# Altium footprint library PcbLib2021-2022.PcbLib: 46 footprints (part 1 of 3)
Each footprint in its own frame and in the unit in brackets; x right, y up, seen from the top. Pads: shape width x height; smd on the part's side, far side on the other; paste and mask are expansions set on the pad; w line width, h text height; cw(c..) or ccw(c..) is an arc to the next point about the centre after c.
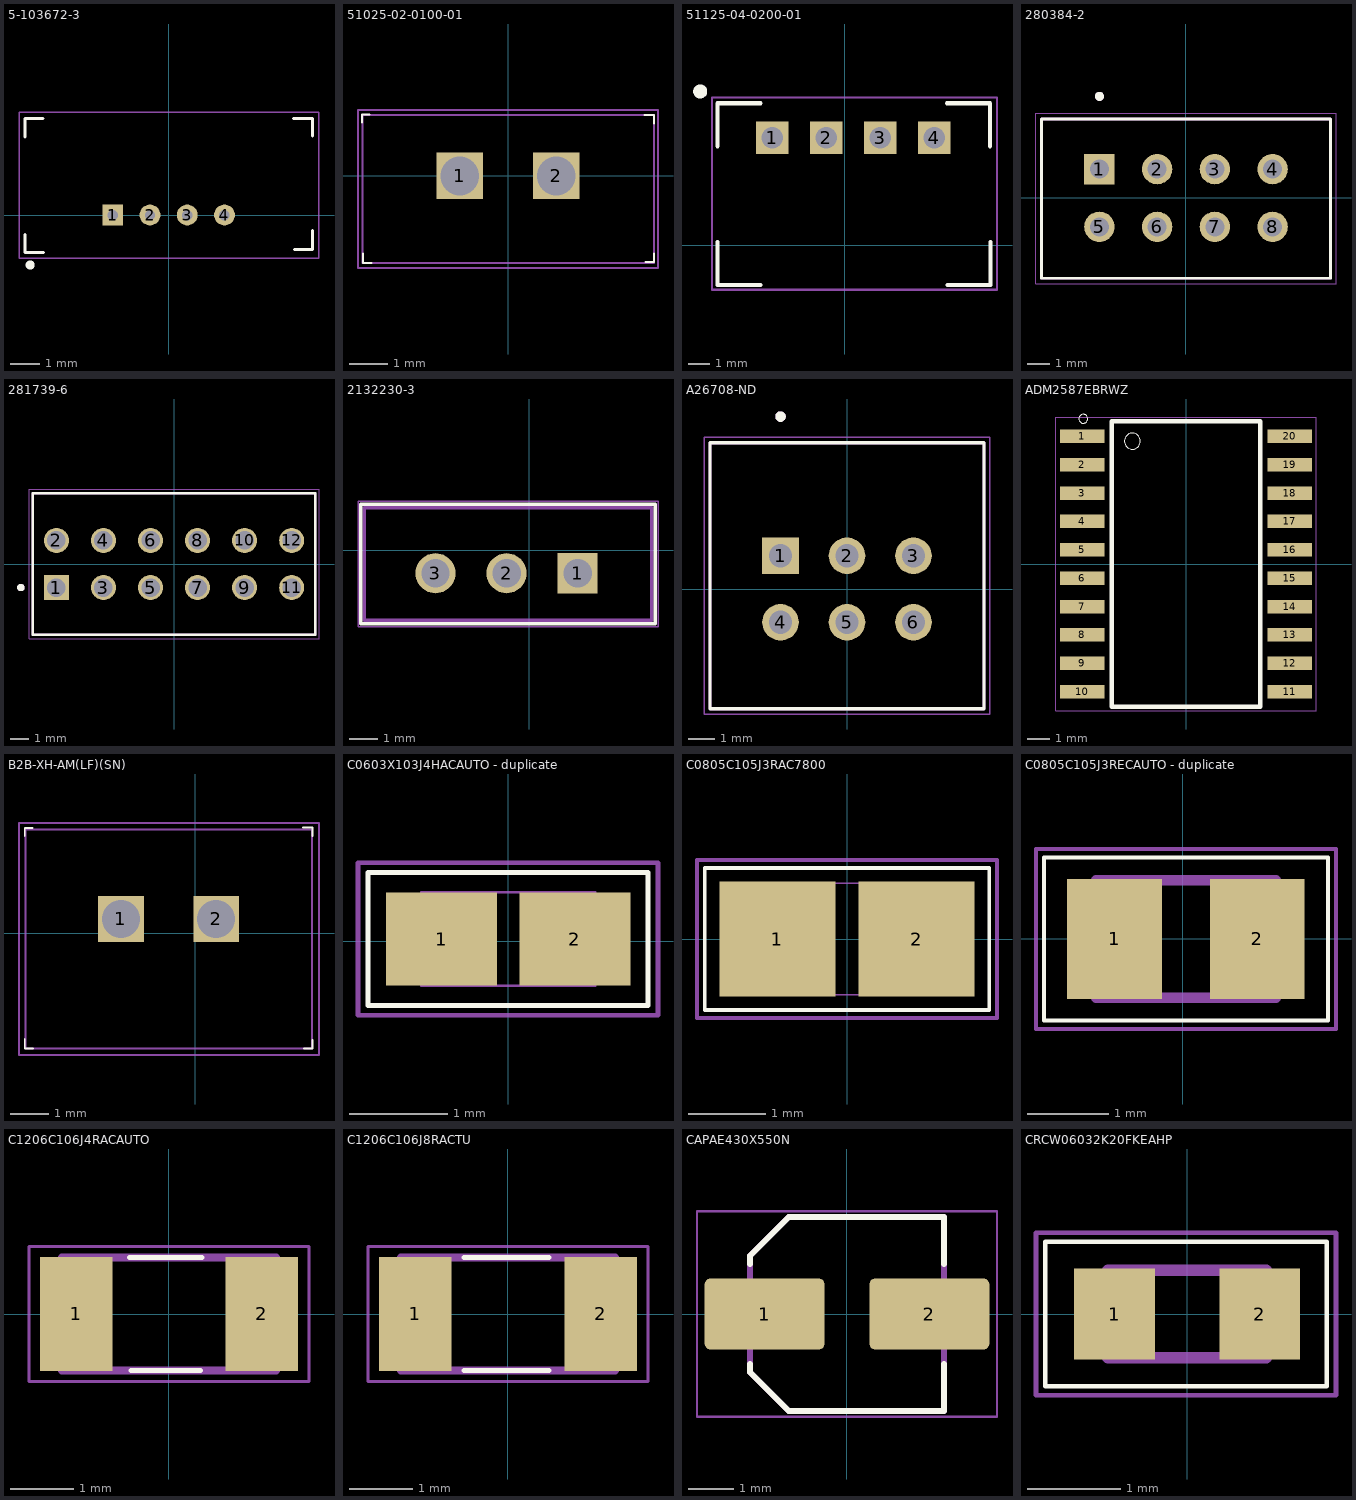
[diagram p0: the footprints below, top view; thin cyan lines are the x and y axes]

## 5-103672-3 [mm]
pads (4):
  rect 0.7x0.7 hole 0.35 square mask+0.01: 1(-1.875,0)
  round 0.7 hole 0.35 square mask+0.01: 2(-0.625,0) 3(0.625,0) 4(1.875,0)
Top Overlay:
  circle w0.254: c-4.65,-1.675 r0.025
  lines w0.1: -4.825,-0.65 -4.825,-1.25 -4.2,-1.25 ; -4.825,2.625 -4.825,3.25 -4.225,3.25 ; 4.2,3.25 4.825,3.25 4.825,2.65 ; 4.225,-1.15 4.825,-1.15 4.825,-0.525
M14_TopAssembly:
  text "'.Designator'" at -2.847,-0.689 h1.52
M15_TopCoutyard:
  lines w0.05: -5.025,-1.45 -5.025,3.45 5.05,3.45 5.05,-1.45 -5.025,-1.45
3D body "DF13-4P-1.25H.STEP": height 4.77, standoff -1.73, extent -4.825,-1.2 4.825,3.2

## 51025-02-0100-01 [mm]
pads (2):
  rect 1.2x1.2 hole 1: 1(-1.25,0) 2(1.25,0)
Top Overlay:
  lines w0.05: -3.775,1.375 -3.775,1.587 -3.575,1.587 ; -3.75,-2 -3.75,-2.25 -3.525,-2.25 ; 3.525,1.575 3.775,1.575 3.775,1.35 ; 3.55,-2.225 3.775,-2.225 3.775,-2
M14_TopAssembly:
  lines w0.05: -3.755,-2.25 -3.755,1.575 3.77,1.575 3.77,-2.25 -3.755,-2.25
  text "'.Designator'" at -1.175,-0.624 h2
M15_TopCoutyard:
  lines w0.05: -3.875,-2.375 -3.875,1.7 -3.5,1.7 3.875,1.7 3.875,-2.375 -3.875,-2.375
3D body "JST-B2B-EH-A.STEP": height 6.25, standoff -2.95, extent -3.75,-2.225 3.75,1.575

## 51125-04-0200-01 [mm]
pads (4):
  rect 1.508x1.508 hole 1: 1(-3.37,5) 2(-0.863,5) 3(1.643,5) 4(4.15,5)
Top Overlay:
  circle w0.35: c-6.725,7.15 r0.15
  lines w0.2: -5.925,0.15 -5.925,-1.85 -3.925,-1.85 ; -5.925,4.6 -5.925,6.6 -3.925,6.6 ; 4.75,6.6 6.75,6.6 6.75,4.6 ; 4.775,-1.85 6.775,-1.85 6.775,0.15
M14_TopAssembly:
  text "'.Designator'" at -3.454,-1.504 h5
M15_TopCoutyard:
  lines w0.1: -6.175,-2.075 7.075,-2.075 7.075,6.875 -6.175,6.875 -6.175,-2.075
3D body "JST-S4B-EH-A.STEP": height 4.7, standoff -2.7, extent -5.875,-1.725 6.625,6.475

## 280384-2 [mm] "CONN HEADER VERT 8POS 2.54MM"
pads (8):
  rect 1.338x1.338 hole 0.83: 1(-3.81,1.27)
  round 1.338 hole 0.83: 2(-1.27,1.27) 3(1.27,1.27) 4(3.81,1.27) 5(-3.81,-1.27) 6(-1.27,-1.27) 7(1.27,-1.27) 8(3.81,-1.27)
Top Overlay:
  circle w0.2: c-3.81,4.47 r0.1
  lines w0.127: -6.35,-3.53 6.35,-3.53 6.35,3.47 -6.35,3.47 -6.35,-3.53
M13_3DBody:
  circle w0.2: c-3.81,4.47 r0.1
  lines w0.127: -6.35,-3.53 -6.35,3.47 6.35,3.47 6.35,-3.53 -6.35,-3.53
M14_TopAssembly:
  text "'.Designator'" at -2.825,-1.198 h4
M15_TopCoutyard:
  lines w0.05: -6.6,-3.78 6.6,-3.78 6.6,3.72 -6.6,3.72 -6.6,-3.78
3D body "280384-2.stp": height 12.62, standoff -3.48, extent -6.2,-3.525 6.25,3.475

## 281739-6 [mm] "CONN HEADER VERT 12POS 2.54MM"
pads (12):
  rect 1.35x1.35 hole 1: 1(-6.35,-1.27)
  round 1.35 hole 1: 2(-6.35,1.27) 3(-3.81,-1.27) 4(-3.81,1.27) 5(-1.27,-1.27) 6(-1.27,1.27) 7(1.27,-1.27) 8(1.27,1.27) 9(3.81,-1.27) 10(3.81,1.27) 11(6.35,-1.27) 12(6.35,1.27)
Top Overlay:
  circle w0.2: c-8.27,-1.27 r0.1
  lines w0.127: -7.62,-3.81 7.62,-3.81 7.62,3.81 -7.62,3.81 -7.62,-3.81
M13_3DBody:
  circle w0.2: c-8.27,-1.27 r0.1
  lines w0.127: -7.62,-3.81 -7.62,3.81 ; -7.62,-3.81 7.62,-3.81 ; -7.62,-3.81 -7.62,3.81 ; -7.62,3.81 7.62,3.81 ; -7.62,3.81 7.62,3.81 ; 7.62,-3.81 7.62,3.81 ; 7.62,-3.81 7.62,3.81
M14_TopAssembly:
  text "'Designator'" at -1.547,-0.739 h1.52
M15_TopCoutyard:
  lines w0.05: -7.825,-4.025 7.825,-4.025 7.825,4.025 -7.825,4.025 -7.825,-4.025
3D body "281739-6.stp": height 10.95, standoff -3.35, extent -7.62,-3.775 7.62,3.765

## 2132230-3 [mm] "CONN HEADER VERT 3POS 2.5MM"
pads (3):
  rect 1.408x1.408 hole 1: 1(1.7,-0.8)
  round 1.408 hole 1: 2(-0.8,-0.8) 3(-3.3,-0.8)
Top Overlay:
  lines w0.127: -5.925,-2.575 -5.925,1.625 4.425,1.625 4.425,-2.575 1.6,-2.575 -3.2,-2.575 -5.925,-2.575
M14_TopAssembly:
  lines w0.127: -5.8,-2.45 -5.8,1.5 4.3,1.5 4.3,-2.45 -5.8,-2.45
  text "'.Designator'" at -2.125,-0.961 h3
M15_TopCoutyard:
  lines w0.05: -6.025,-2.675 -6.025,1.725 4.525,1.725 4.525,-2.675 -6.025,-2.675
3D body "JST-B3B-EH-A.STEP": height 6.25, standoff -2.95, extent -5.775,-2.375 4.225,1.425

## A26708-ND [mm] "CONN HEADER VERT 6POS 2.54MM"
pads (6):
  rect 1.398x1.398 hole 0.89: 1(-2.54,1.27)
  round 1.398 hole 0.89: 2(0,1.27) 3(2.54,1.27) 4(-2.54,-1.27) 5(0,-1.27) 6(2.54,-1.27)
Top Overlay:
  circle w0.2: c-2.54,6.588 r0.1
  lines w0.127: -5.232,-4.572 -5.232,5.588 5.232,5.588 5.232,-4.572 -5.232,-4.572
M13_3DBody:
  circle w0.2: c-2.54,6.588 r0.1
  lines w0.127: -5.232,-4.572 -5.232,5.588 5.232,5.588 5.232,-4.572 -5.232,-4.572
M14_TopAssembly:
  text "'.Designator'" at -2.625,-1.173 h4
M15_TopCoutyard:
  lines w0.05: -5.45,-4.775 -5.45,5.8 5.45,5.8 5.45,-4.775 -5.45,-4.775
3D body "103168-1--3DModel-STEP-1.STEP": height 11.2, standoff -3.15, extent -5.24,-4.575 5.225,5.585

## ADM2587EBRWZ [mm]
pads (20):
  rect 2x0.6 smd: 1(-4.65,5.715) 2(-4.65,4.445) 3(-4.65,3.175) 4(-4.65,1.905) 5(-4.65,0.635) 6(-4.65,-0.635) 7(-4.65,-1.905) 8(-4.65,-3.175) 9(-4.65,-4.445) 10(-4.65,-5.715) 11(4.65,-5.715) 12(4.65,-4.445) 13(4.65,-3.175) 14(4.65,-1.905) 15(4.65,-0.635) 16(4.65,0.635) 17(4.65,1.905) 18(4.65,3.175) 19(4.65,4.445) 20(4.65,5.715)
Top Overlay:
  circle w0: c-2.4,5.5 r0.361
  circle w0: c-4.6,6.5 r0.2
  lines w0.2: -3.325,-6.4 3.325,-6.4 3.325,6.4 -3.325,6.4 -3.325,-6.4
M14_TopAssembly:
  text "'.Designator'" at -3.05,-1.073 h4
M15_TopCoutyard:
  lines w0.05: -5.825,-6.575 -5.825,6.575 5.825,6.575 5.825,-6.575 -5.825,-6.575
3D body "ADM2587EBRWZ-REEL7--3DModel-STEP-15126 (1).STEP": height 2.6, standoff -0.05, extent -5.062,-6.4 5.262,6.4

## B2B-XH-AM(LF)(SN) [mm]
pads (2):
  rect 1.2x1.2 hole 1: 1(-1.95,0.375) 2(0.55,0.375)
Top Overlay:
  lines w0.05: -4.475,-2.775 -4.475,-3.025 -4.25,-3.025 ; -4.475,2.55 -4.475,2.762 -4.275,2.762 ; 2.825,2.775 3.075,2.775 3.075,2.55 ; 2.85,-3.025 3.075,-3.025 3.075,-2.8
M14_TopAssembly:
  lines w0.05: -4.455,-3.025 3.07,-3.025 3.07,2.725 -4.455,2.725 -4.455,-3.025
  text "'.Designator'" at -1.875,-0.249 h2
M15_TopCoutyard:
  lines w0.05: -4.625,-3.2 3.25,-3.2 3.25,2.9 -4.2,2.9 -4.625,2.9 -4.625,-3.2
3D body "JST-B2B-EH-A.STEP": height 7, standoff -2.2, extent -4.45,-1.85 3.05,1.95

## C0603X103J4HACAUTO - duplicate [mm]
pads (2):
  rect 1.126x0.95 smd paste+0 mask+0: 1(-0.675,0.025) 2(0.681,0.025)
Top Overlay:
  lines w0.05: -1.425,-0.65 -1.425,0.7 1.425,0.7 1.425,-0.65 -1.425,-0.65
M13_3DBody:
  lines w0.025: -0.882,-0.45 -0.882,0.5 ; -0.882,-0.45 -0.282,-0.45 -0.282,0.5 -0.882,0.5 ; -0.882,-0.45 0.888,-0.45 ; -0.882,-0.45 -0.882,0.5 ; -0.882,0.5 0.888,0.5 ; 0.888,-0.45 0.288,-0.45 0.288,0.5 0.888,0.5 ; 0.888,-0.45 0.888,0.5 ; 0.888,-0.45 0.888,0.5
M14_TopAssembly:
  text "'.Designator'" at -0.875,-0.414 h1.52
M15_TopCoutyard:
  lines w0.05: -1.525,-0.75 1.525,-0.75 1.525,0.8 -1.525,0.8 -1.525,-0.75
3D body "CAPC17795_95N_KEM.step": height 0.95, standoff 0, extent -0.882,-0.45 0.888,0.5
3D body "C0603X103J4HACAUTO.step": height 0.95, standoff 0, extent -0.885,-0.45 0.885,0.5

## C0805C105J3RAC7800 [mm]
pads (2):
  rect 1.509x1.501 smd paste+0 mask+0: 1(-0.904,0) 2(0.904,0)
Top Overlay:
  lines w0.05: -1.85,-0.925 1.85,-0.925 1.85,0.925 -1.85,0.925 -1.85,-0.925
M13_3DBody:
  lines w0.025: -1.1,-0.725 -1.1,0.725 ; -1.1,-0.725 -0.35,-0.725 -0.35,0.725 -1.1,0.725 ; -1.1,-0.725 1.1,-0.725 ; -1.1,-0.725 -1.1,0.725 ; -1.1,0.725 1.1,0.725 ; 1.1,-0.725 0.35,-0.725 0.35,0.725 1.1,0.725 ; 1.1,-0.725 1.1,0.725 ; 1.1,-0.725 1.1,0.725
M14_TopAssembly:
  text "'.Designator'" at -1.1,-0.414 h1.52
M15_TopCoutyard:
  lines w0.05: -1.95,-1.025 1.95,-1.025 1.95,1.025 -1.95,1.025 -1.95,-1.025
3D body "C0805C105J3RACTU.step": height 1.4, standoff 0, extent -1.071,-0.725 1.129,0.725

## C0805C105J3RECAUTO - duplicate [mm]
pads (2):
  rect 1.16x1.47 smd: 1(-0.838,0) 2(0.912,0)
Top Overlay:
  lines w0.05: -1.7,-1 -1.7,1 1.775,1 1.775,-1 -1.7,-1
M13_3DBody:
  lines w0.127: -1.063,-0.72 1.137,-0.72 1.137,0.72 -1.063,0.72 -1.063,-0.72
M14_TopAssembly:
  text "'.Designator'" at -0.66,-0.32 h1
M15_TopCoutyard:
  lines w0.05: -1.8,-1.1 -1.8,1.1 1.875,1.1 1.875,-1.1 -1.8,-1.1
3D body "C0805C105J3RECAUTO (1).STEP": height 1.26, standoff 0.01, extent -0.95,-0.705 1.05,0.695

## C1206C106J4RACAUTO [mm]
pads (2):
  rect 1.16x1.82 smd: 1(-1.475,0) 2(1.475,0)
Top Overlay:
  lines w0.08: -0.625,0.9 0.525,0.9 ; -0.6,-0.9 0.5,-0.9
M13_3DBody:
  lines w0.127: -1.7,-0.9 -1.7,0.9 1.7,0.9 1.7,-0.9 -1.7,-0.9
M14_TopAssembly:
  text "'.Designator'" at -1.4,-0.624 h2
M15_TopCoutyard:
  lines w0.05: -2.225,-1.075 -2.225,1.075 2.225,1.075 2.225,-1.075 -2.225,-1.075
3D body "C1206C106J8RACTU.STEP": height 1.8, standoff 0, extent -1.6,-0.8 1.6,0.8

## C1206C106J8RACTU [mm]
pads (2):
  rect 1.16x1.82 smd: 1(-1.475,0) 2(1.475,0)
Top Overlay:
  lines w0.08: -0.7,-0.9 0.65,-0.9 ; -0.7,0.9 0.65,0.9
M13_3DBody:
  lines w0.127: -1.7,-0.9 1.7,-0.9 1.7,0.9 -1.7,0.9 -1.7,-0.9
M14_TopAssembly:
  text "'.Designator'" at -1.4,-0.724 h2
M15_TopCoutyard:
  lines w0.05: -2.225,-1.075 2.225,-1.075 2.225,1.075 -2.225,1.075 -2.225,-1.075
3D body "C1206C106J8RACTU.STEP": height 1.8, standoff 0, extent -1.6,-0.8 1.6,0.8

## CAPAE430X550N [mm]
pads (2):
  rrect17% 2.66x1.58 smd: 1(-1.825,0) 2(1.825,0)
Top Overlay:
  lines w0.127: -2.15,-1.11 -2.15,-1.29 -1.29,-2.15 2.15,-2.15 2.15,-1.11 ; -2.15,1.11 -2.15,1.29 -1.29,2.15 2.15,2.15 2.15,1.11
M13_3DBody:
  lines w0.127: -2.15,-1.29 -2.15,1.29 -1.29,2.15 2.15,2.15 2.15,-2.15 -1.29,-2.15 -2.15,-1.29
M14_TopAssembly:
  text "'.Designator'" at -2.797,-0.739 h1.52
M15_TopCoutyard:
  lines w0.05: -3.325,-2.275 3.325,-2.275 3.325,2.275 -3.325,2.275 -3.325,-2.275
3D body "step_temp.STEP": height 5.5, standoff 0, extent -2.503,-2.15 2.503,2.15

## CRCW06032K20FKEAHP [mm]
pads (2):
  rect 0.87x0.98 smd: 1(-0.78,0) 2(0.78,0)
Top Overlay:
  lines w0.05: -1.525,-0.775 1.5,-0.775 1.5,0.775 -1.525,0.775 -1.525,-0.775
M13_3DBody:
  lines w0.127: -0.85,-0.47 -0.85,0.47 0.85,0.47 0.85,-0.47 -0.85,-0.47
M14_TopAssembly:
  text "'.Designator'" at -0.7,-0.287 h1
M15_TopCoutyard:
  lines w0.05: -1.625,-0.875 1.6,-0.875 1.6,0.875 -1.625,0.875 -1.625,-0.875
3D body "CRCW06032K20FKEAHP.STEP": height 0.55, standoff 0, extent -0.8,-0.425 0.8,0.425